# Altium schematic symbol library Liyao原理图库.SchLib: 41 symbols
Pins are listed as number, name and electrical type; pins without a type are passive.

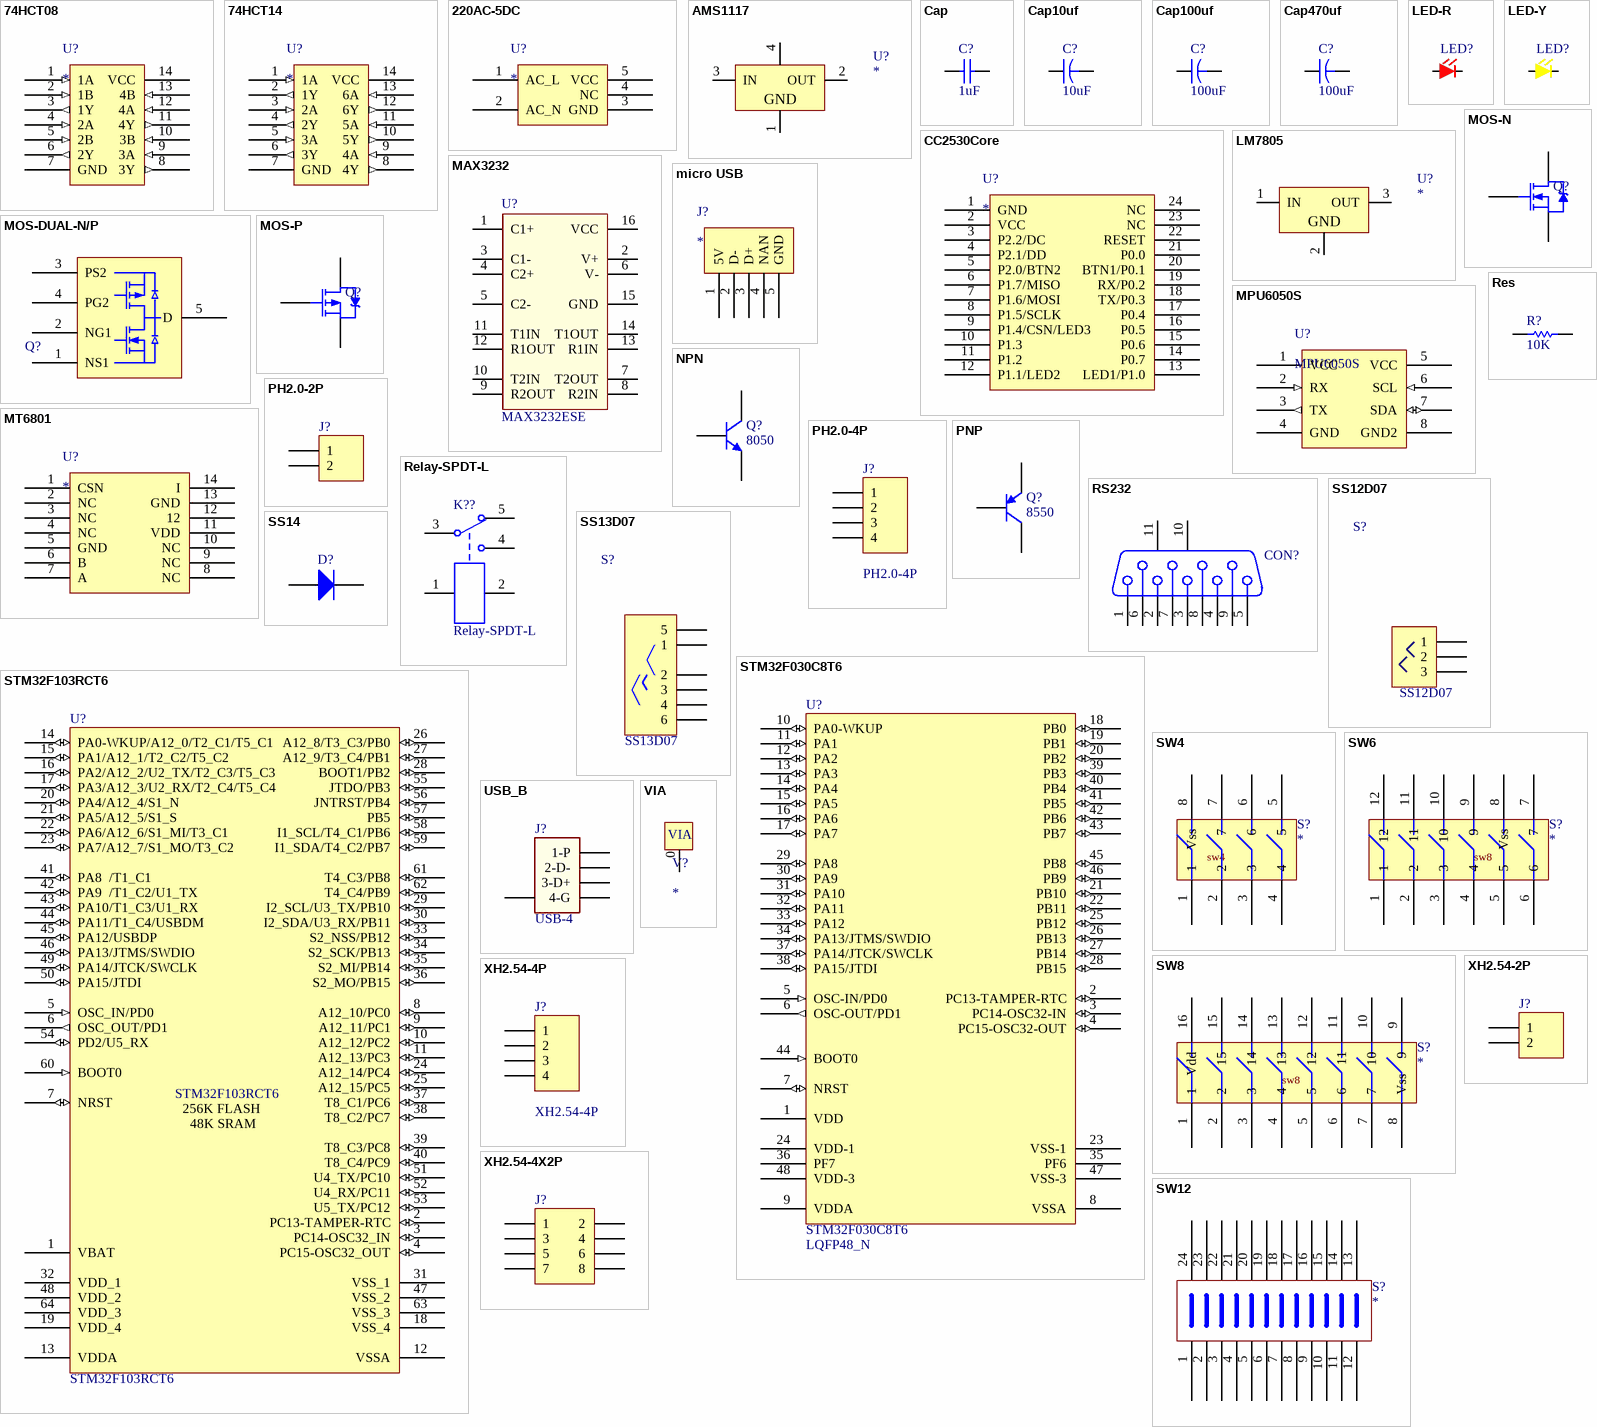
[diagram p0: symbols 74HCT08 to XH2.54-4X2P]

## 74HCT08
designator U?
与门AH&&BH?YH:YL; Value: 74HCT08
footprint SO-14
pins: 1 1A (in), 2 1B (in), 3 1Y (out), 4 2A (in), 5 2B (in), 6 2Y (out), 7 GND (power), 8 3Y (out), 9 3A (in), 10 3B (in), 11 4Y (out), 12 4A (in), 13 4B (in), 14 VCC (power)

## 74HCT14
designator U?
反向输出 AL-YH,AH-YL; Value: 74HCT14
footprint SO-14
pins: 1 1A (in), 2 1Y (out), 3 2A (in), 4 2Y (out), 5 3A (in), 6 3Y (out), 7 GND (power), 8 4Y (out), 9 4A (in), 10 5Y (out), 11 5A (in), 12 6Y (out), 13 6A (in), 14 VCC (power)

## 220AC-5DC
designator U?
220VAC转5VDC模块
footprint 220AC-5DC
pins: 1 AC_L, 2 AC_N, 3 GND, 4 NC, 5 VCC

## AMS1117
designator U?
Value: AMS1117
footprint SOT223
pins: 1, 2 OUT "OUT_3.3V", 3 IN "20-5V", 4
text: GND

## Cap
designator C?, comment 1uF
电容; Published: 8-Jun-2000; LatestRevisionDate: 17-Jul-2002; LatestRevisionNote: Re-released for DXP Platform.; PackageReference: RAD-0.3; Publisher: Altium Limited; PackageDescription: Radial Cap, Thru-Hole; 2 Leads; 0.3 in Pin Spacing; Value: 1uF
footprint 0805_LY
simulation model CAP (Capacitor)
signal-integrity model Cap
footprint C0603_M1608 (Chip Capacitor, 2-Leads, Body 1.6x0.8mm, IPC Medium Density)
pins: 1, 2

## Cap10uf
designator C?, comment 10uF
10uf/35v电解电容; Published: 23-Sep-2002; PackageReference: CAPR5-4X5; Publisher: Altium Limited; PackageDescription: Capacitor; 2 Leads; Value: 10uF
footprint TC5*5
simulation model CAP (Capacitor)
signal-integrity model Cap
pins: 1, 2

## Cap100uf
designator C?, comment 100uF
100uf/35v电解电容; Published: 23-Sep-2002; PackageReference: CAPR5-4X5; Publisher: Altium Limited; PackageDescription: Capacitor; 2 Leads; Value: 100uF
footprint TC6.3*7.7
simulation model CAP (Capacitor)
signal-integrity model Cap
pins: 1, 2

## Cap470uf
designator C?, comment 100uF
470uf/35v电解电容; Published: 23-Sep-2002; PackageReference: CAPR5-4X5; Publisher: Altium Limited; PackageDescription: Capacitor; 2 Leads; Value: 100uF
footprint TC10*10
simulation model CAP (Capacitor)
signal-integrity model Cap
pins: 1, 2

## CC2530Core
designator U?
footprint CC2530_CORE
pins: 1 GND, 2 VCC, 3 P2.2/DC, 4 P2.1/DD, 5 P2.0/BTN2, 6 P1.7/MISO, 7 P1.6/MOSI, 8 P1.5/SCLK, 9 P1.4/CSN/LED3, 10 P1.3, 11 P1.2, 12 P1.1/LED2, 13 LED1/P1.0, 14 P0.7, 15 P0.6, 16 P0.5, 17 P0.4, 18 TX/P0.3, 19 RX/P0.2, 20 BTN1/P0.1, 21 P0.0, 22 RESET, 23 NC, 24 NC

## LED-R
designator LED?  (value not drawn)
LED红
footprint 0805_LED
pins: 1, 2

## LED-Y
designator LED?  (value not drawn)
LED黄
footprint 0805_LED
pins: 1, 2

## LM7805
designator U?
三端稳压，05代表电压; Value: LM7805
footprint TO-220 (TO, Thru-Hole, Vertical, Heatsink Mounted; 3 In-Line Leads; Pitch 2.54 mm)
pins: 1 IN "20-5V", 2, 3 OUT "OUT_3.3V"
text: GND

## MAX3232
designator U?, comment MAX3232ESE
Value: max3232ese
footprint SOIC-16N
pins: 1 C1+, 2 V+, 3 C1-, 4 C2+, 5 C2-, 6 V-, 7 T2OUT, 8 R2IN, 9 R2OUT, 10 T2IN, 11 T1IN, 12 R1OUT, 13 R1IN, 14 T1OUT, 15 GND, 16 VCC

## micro USB
designator J?
micro USB母
footprint MICRO-USB
pins: 1 5V (power), 2 D-, 3 D+, 4 NAN, 5 GND

## MOS-DUAL-N/P
designator Q?  (value not drawn)
双路MOS; Value: AOD609
footprint TO-252-4L
pins: 1 NS1, 2 NG1, 3 PS2, 4 PG2, 5 D

## MOS-N
designator Q?
N-Channel MOSFET; Published: 8-Jun-2000; LatestRevisionDate: 17-Jul-2002; LatestRevisionNote: Re-released for DXP Platform.; PackageVersion: 1995/1996; PackageReference: E3; Publisher: Altium Limited; PackageDescription: TO, Flat Index; 3 In-Line, Axial Leads; Body Dia. 4.6mm; Lead Dia. 0.5 mm (max); Value: *
footprint TO-252-2L
simulation model NMOS (MOSFET-N)
pins: 1 G, 2 S, 3 D

## MOS-P
designator Q?
P-Channel MOSFET; Published: 8-Jun-2000; LatestRevisionDate: 17-Jul-2002; LatestRevisionNote: Re-released for DXP Platform.; PackageVersion: 1995/1996; PackageReference: E3; Publisher: Altium Limited; PackageDescription: TO, Flat Index; 3 In-Line, Axial Leads; Body Dia. 4.6mm; Lead Dia. 0.5 mm (max)
footprint TO-252-2L
simulation model PMOS (MOSFET-P)
pins: 1 G, 2 S, 3 D

## MPU6050S
designator U?
6轴姿态传感器
footprint MPU6050S (MPU6050融合卡尔曼模块)
pins: 1 VCC (power), 2 RX (in), 3 TX (out), 4 GND (power), 5 VCC (power), 6 SCL (in), 7 SDA (io), 8 GND2

## MT6801
designator U?
磁码盘IC
footprint SSOP14_C (SOP, 16-Leads, Body 6.2x5.3mm, Pitch 0.65mm, IPC High Density)
pins: 1 CSN, 2 NC, 3 NC, 4 NC, 5 GND, 6 B, 7 A, 8 NC, 9 NC, 10 NC, 11 VDD, 12, 13 GND, 14 I

## NPN
designator Q?, comment 8050
NPN Bipolar Transistor; Published: 8-Jun-2000; LatestRevisionDate: 17-Jul-2002; LatestRevisionNote: Re-released for DXP Platform.; PackageReference: TO-226-AA; Publisher: Altium Limited; PackageDescription: TO, Flat Index; 3 In-Line, Axial Leads; Body Dia. 4.8mm; Leads 0.55 x 0.51 mm (max); Code_JEDEC: TO-226-AA; Value: 8050
footprint SOT-23_L (Footprint not found)
simulation model NPN
signal-integrity model NPN
pins: 1 B, 2 E, 3 C

## PH2.0-2P
designator J?  (value not drawn)
插座PH2.0-2P; LatestRevisionDate: 17-Jul-2002; LatestRevisionNote: Re-released for DXP Platform.; Publisher: Altium Limited
footprint PH2.0-2P
signal-integrity model Connector
pins: 1, 2

## PH2.0-4P
designator J?
插座PH2.0-4P; LatestRevisionDate: 17-Jul-2002; LatestRevisionNote: Re-released for DXP Platform.; Publisher: Altium Limited; Value: PH2.0-4P
footprint PH2.0-4P
signal-integrity model Connector
pins: 1, 2, 3, 4

## PNP
designator Q?, comment 8550
PNP Bipolar Transistor; Published: 8-Jun-2000; LatestRevisionDate: 29-May-2009; LatestRevisionNote: IPC-7351 Footprint Added.; PackageVersion: Aug-1999; PackageReference: SOT-23B; Publisher: Altium Limited; PackageDescription: 3-Pin SOT-23 Package 0.95 mm Pitch, 2.4 mm Lead Span; Value: 8550
footprint SOT-23_L (Footprint not found)
footprint SOT-23B_L (SOT23, 3-Leads, Body 2.9x1.3mm, Pitch 0.95mm, Lead Span 2.4mm, IPC High Density)
footprint SOT-23B_M (SOT23, 3-Leads, Body 2.9x1.3mm, Pitch 0.95mm, Lead Span 2.4mm, IPC Low Density)
simulation model PNP
signal-integrity model PNP
pins: 1 B, 2 E, 3 C

## Relay-SPDT-L
designator K??
Single-Pole Dual-Throw Relay; Published: 24-Mar-1999; LatestRevisionDate: 17-Jul-2002; LatestRevisionNote: Re-released for DXP Platform.; PackageReference: MODULE5B; Publisher: Altium Limited
footprint MODULE5B (DIP; 5 Round Pins; Row Space 15.24 mm; Pitch 2.54 mm)
simulation model SPDTRELAY (Spice Subcircuit)
pins: 1, 2, 3, 4, 5

## Res
designator R?, comment 10K
电阻; Published: 8-Jun-2000; LatestRevisionDate: 17-Jul-2002; LatestRevisionNote: Re-released for DXP Platform.; PackageReference: AXIAL-0.3; Publisher: Altium Limited; PackageDescription: Axial Device, Thru-Hole; 2 Leads; 0.3 in Pin Spacing; Value: 10K
footprint AXIAL-0.3 (Axial Device, Thru-Hole; 2 Leads; 0.3 in Pin Spacing)
simulation model RESISTOR (Resistor)
signal-integrity model Res
footprint M0805
footprint R
footprint 0805_LY
footprint 0805_LY
pins: 1, 2

## RS232
designator CON?  (value not drawn)
RS232,公头/母头,弯针/直针 9 Position, Right Angle; PackageDocument: O; Positions: 9; Gender: Receptacle; Published: 15-Jun-2001; LatestRevisionDate: 17-Jul-2002; LatestRevisionNote: Re-released for DXP Platform.; DatasheetDocument: 1-Sep-1999; PackageReference: 788750; Publisher: Altium Limited; Orientation: Right Angle; Value: rs232
footprint DSUB1.385-2H9-M (Connector; D Subminiature; 9 Position; Right Angle; Pitch 1.385 mm)
signal-integrity model Connector
pins: 1, 2, 3, 4, 5, 6, 7, 8, 9, 10 MH1, 11 MH2

## SS12D07
designator S?
拨动开关3P; Value: SS12D07
footprint SS-12D07 (拨动开关)
pins: 1, 2, 3

## SS13D07
designator S?  value SS13D07
拨动开关6P
footprint SS13D07VG4
pins: 1, 2, 3, 4, 5, 6

## SS14
designator D?  (value not drawn)
保护二极管 28V 1A; Published: 8-Jun-2000; LatestRevisionDate: 17-Jul-2002; LatestRevisionNote: Re-released for DXP Platform.; PackageVersion: Sep-1996; PackageReference: SMC; Publisher: Altium Limited; PackageDescription: DO-214-AB/SMC; 2 C-Bend Leads; Body 7.9 x 5.9 mm, inc. leads (LxW); Code_JEDEC: DO-214-AB; Value: SS14
footprint SMA
simulation model DIODE (Diode)
signal-integrity model Diode
pins: 1 A, 2 K

## STM32F030C8T6
designator U?, comment LQFP48_N  value STM32F030C8T6
STM32 ARM-based 32-bit MCU with 64 Kbytes Flash, 48-pin LQFP, Industrial Temperature; Published: *; DatasheetVersion: *; PackageVersion: *; PackageReference: *; Publisher: *; PackageDescription: *; ComponentLink1Description: *; ComponentLink1URL: *; ComponentLink2Description: *; ComponentLink2URL: *
footprint LQFP48_N
footprint LQFP48_N
pins: 1 VDD (power), 2 PC13-TAMPER-RTC (io), 3 PC14-OSC32-IN (io), 4 PC15-OSC32-OUT (io), 5 OSC-IN/PD0 (in), 6 OSC-OUT/PD1 (out), 7 NRST (io), 8 VSSA (power), 9 VDDA (power), 10 PA0-WKUP (io), 11 PA1 (io), 12 PA2 (io), 13 PA3 (io), 14 PA4 (io), 15 PA5 (io), 16 PA6 (io), 17 PA7 (io), 18 PB0 (io), 19 PB1 (io), 20 PB2 (io), 21 PB10 (io), 22 PB11 (io), 23 VSS-1 (power), 24 VDD-1 (power), 25 PB12 (io), 26 PB13 (io), 27 PB14 (io), 28 PB15 (io), 29 PA8 (io), 30 PA9 (io), 31 PA10 (io), 32 PA11 (io), 33 PA12 (io), 34 PA13/JTMS/SWDIO (io), 35 PF6 (power), 36 PF7 (power), 37 PA14/JTCK/SWCLK (io), 38 PA15/JTDI (io), 39 PB3 (io), 40 PB4 (io), 41 PB5 (io), 42 PB6 (io), 43 PB7 (io), 44 BOOT0 (in), 45 PB8 (io), 46 PB9 (io), 47 VSS-3 (power), 48 VDD-3 (power)
2 alternate drawings of the same symbol

## STM32F103RCT6
designator U?
256K Flash 48K RAM; Published: 30-May-2008; DatasheetVersion: rev6, Mar-2008; PackageVersion: Mar-2008; PackageReference: LQFP64; Publisher: Altium Limited; PackageDescription: 64-Pin Low-Profile Quad Flat Pack, 10 x 10 mm Body, 0.5 mm Pitch (LQFP64); ComponentLink1Description: Manufacturer Link; ComponentLink1URL: www.st.com/stm32; ComponentLink2Description: Datasheet; ComponentLink2URL: http://www.st.com/stonline/products/literature/ds/13587.pdf; Value: STM32F103RCT6
footprint LQFP64_N (Thin QFP, 64-Leads, Body 10x10mm, Pitch 0.5mm, IPC Medium Density)
footprint LQFP64_L (Thin QFP, 64-Leads, Body 10x10mm, Pitch 0.5mm, IPC High Density)
footprint LQFP64_M (Thin QFP, 64-Leads, Body 10x10mm, Pitch 0.5mm, IPC Low Density)
pins: 1 VBAT (power), 2 PC13-TAMPER-RTC (io), 3 PC14-OSC32_IN (io), 4 PC15-OSC32_OUT (io), 5 OSC_IN/PD0 (in), 6 OSC_OUT/PD1 (out), 7 NRST (io), 8 A12_10/PC0 (io), 9 A12_11/PC1 (io), 10 A12_12/PC2 (io), 11 A12_13/PC3 (io), 12 VSSA (power), 13 VDDA (power), 14 PA0-WKUP/A12_0/T2_C1/T5_C1 (io), 15 PA1/A12_1/T2_C2/T5_C2 (io), 16 PA2/A12_2/U2_TX/T2_C3/T5_C3 (io), 17 PA3/A12_3/U2_RX/T2_C4/T5_C4 (io), 18 VSS_4 (power), 19 VDD_4 (power), 20 PA4/A12_4/S1_N (io), 21 PA5/A12_5/S1_S (io), 22 PA6/A12_6/S1_MI/T3_C1 (io), 23 PA7/A12_7/S1_MO/T3_C2 (io), 24 A12_14/PC4 (io), 25 A12_15/PC5 (io), 26 A12_8/T3_C3/PB0 (io), 27 A12_9/T3_C4/PB1 (io), 28 BOOT1/PB2 (io), 29 I2_SCL/U3_TX/PB10 (io), 30 I2_SDA/U3_RX/PB11 (io), 31 VSS_1 (power), 32 VDD_1 (power), 33 S2_NSS/PB12 (io), 34 S2_SCK/PB13 (io), 35 S2_MI/PB14 (io), 36 S2_MO/PB15 (io), 37 T8_C1/PC6 (io), 38 T8_C2/PC7 (io), 39 T8_C3/PC8 (io), 40 T8_C4/PC9 (io), 41 PA8  /T1_C1 (io), 42 PA9  /T1_C2/U1_TX (io), 43 PA10/T1_C3/U1_RX (io), 44 PA11/T1_C4/USBDM (io), 45 PA12/USBDP (io), 46 PA13/JTMS/SWDIO (io), 47 VSS_2 (power), 48 VDD_2 (power), 49 PA14/JTCK/SWCLK (io), 50 PA15/JTDI (io), 51 U4_TX/PC10 (io), 52 U4_RX/PC11 (io), 53 U5_TX/PC12 (io), 54 PD2/U5_RX (io), 55 JTDO/PB3 (io), 56 JNTRST/PB4 (io), 57 PB5 (io), 58 I1_SCL/T4_C1/PB6 (io), 59 I1_SDA/T4_C2/PB7 (io), 60 BOOT0 (in), 61 T4_C3/PB8 (io), 62 T4_C4/PB9 (io), 63 VSS_3 (power), 64 VDD_3 (power)
text: 256K FLASH; 48K SRAM

## SW4
designator S?
4路拨码开关
footprint DIP8
pins: 1, 2, 3, 4, 5, 6, 7, 8 Vss
text: sw4

## SW6
designator S?
6路拨码开关
pins: 1, 2, 3, 4, 5, 6, 7, 8 Vss, 9, 10, 11, 12
text: sw8

## SW8
designator S?
8路拨码开关
footprint DIP16
pins: 1, 2, 3, 4, 5, 6, 7, 8 Vss, 9, 10, 11, 12, 13, 14, 15, 16 Vdd
text: sw8

## SW12
designator S?
12路拨码开关
footprint DIP24P
pins: 1, 2, 3, 4, 5, 6, 7, 8, 9, 10, 11, 12, 13, 14, 15, 16, 17, 18, 19, 20, 21, 22, 23, 24

## USB_B
designator J?, comment USB-4
footprint USB-C
pins: 0, 1 1-P, 2 2-D-, 3 3-D+, 4 4-G

## VIA
designator V?
焊盘
footprint VIA3.2-5.5
pins: 0

## XH2.54-2P
designator J?  (value not drawn)
插座XH2.54-2P; LatestRevisionDate: 17-Jul-2002; LatestRevisionNote: Re-released for DXP Platform.; Publisher: Altium Limited; Value: XH2.54-2P
footprint XH2.54-2P
signal-integrity model Connector
pins: 1, 2

## XH2.54-4P
designator J?
插座XH2.54-4P; LatestRevisionDate: 17-Jul-2002; LatestRevisionNote: Re-released for DXP Platform.; Publisher: Altium Limited; Value: XH2.54-4P
footprint XH2.54-4P
signal-integrity model Connector
pins: 1, 2, 3, 4

## XH2.54-4X2P
designator J?  (value not drawn)
2.54间距2X4焊盘; LatestRevisionDate: 17-Jul-2002; LatestRevisionNote: Re-released for DXP Platform.; Publisher: Altium Limited; Value: XH2.54-4X2P
footprint XH2.54-2X4P (2.54间距 2X4P)
signal-integrity model Connector
pins: 1, 2, 3, 4, 5, 6, 7, 8

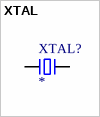
[diagram p1: symbol XTAL]

## XTAL
designator XTAL?
晶振; Value: 8m
footprint XTAL1
pins: 1, 2